# Altium schematic symbol library stratos.SchLib: 36 symbols (part 2 of 2)
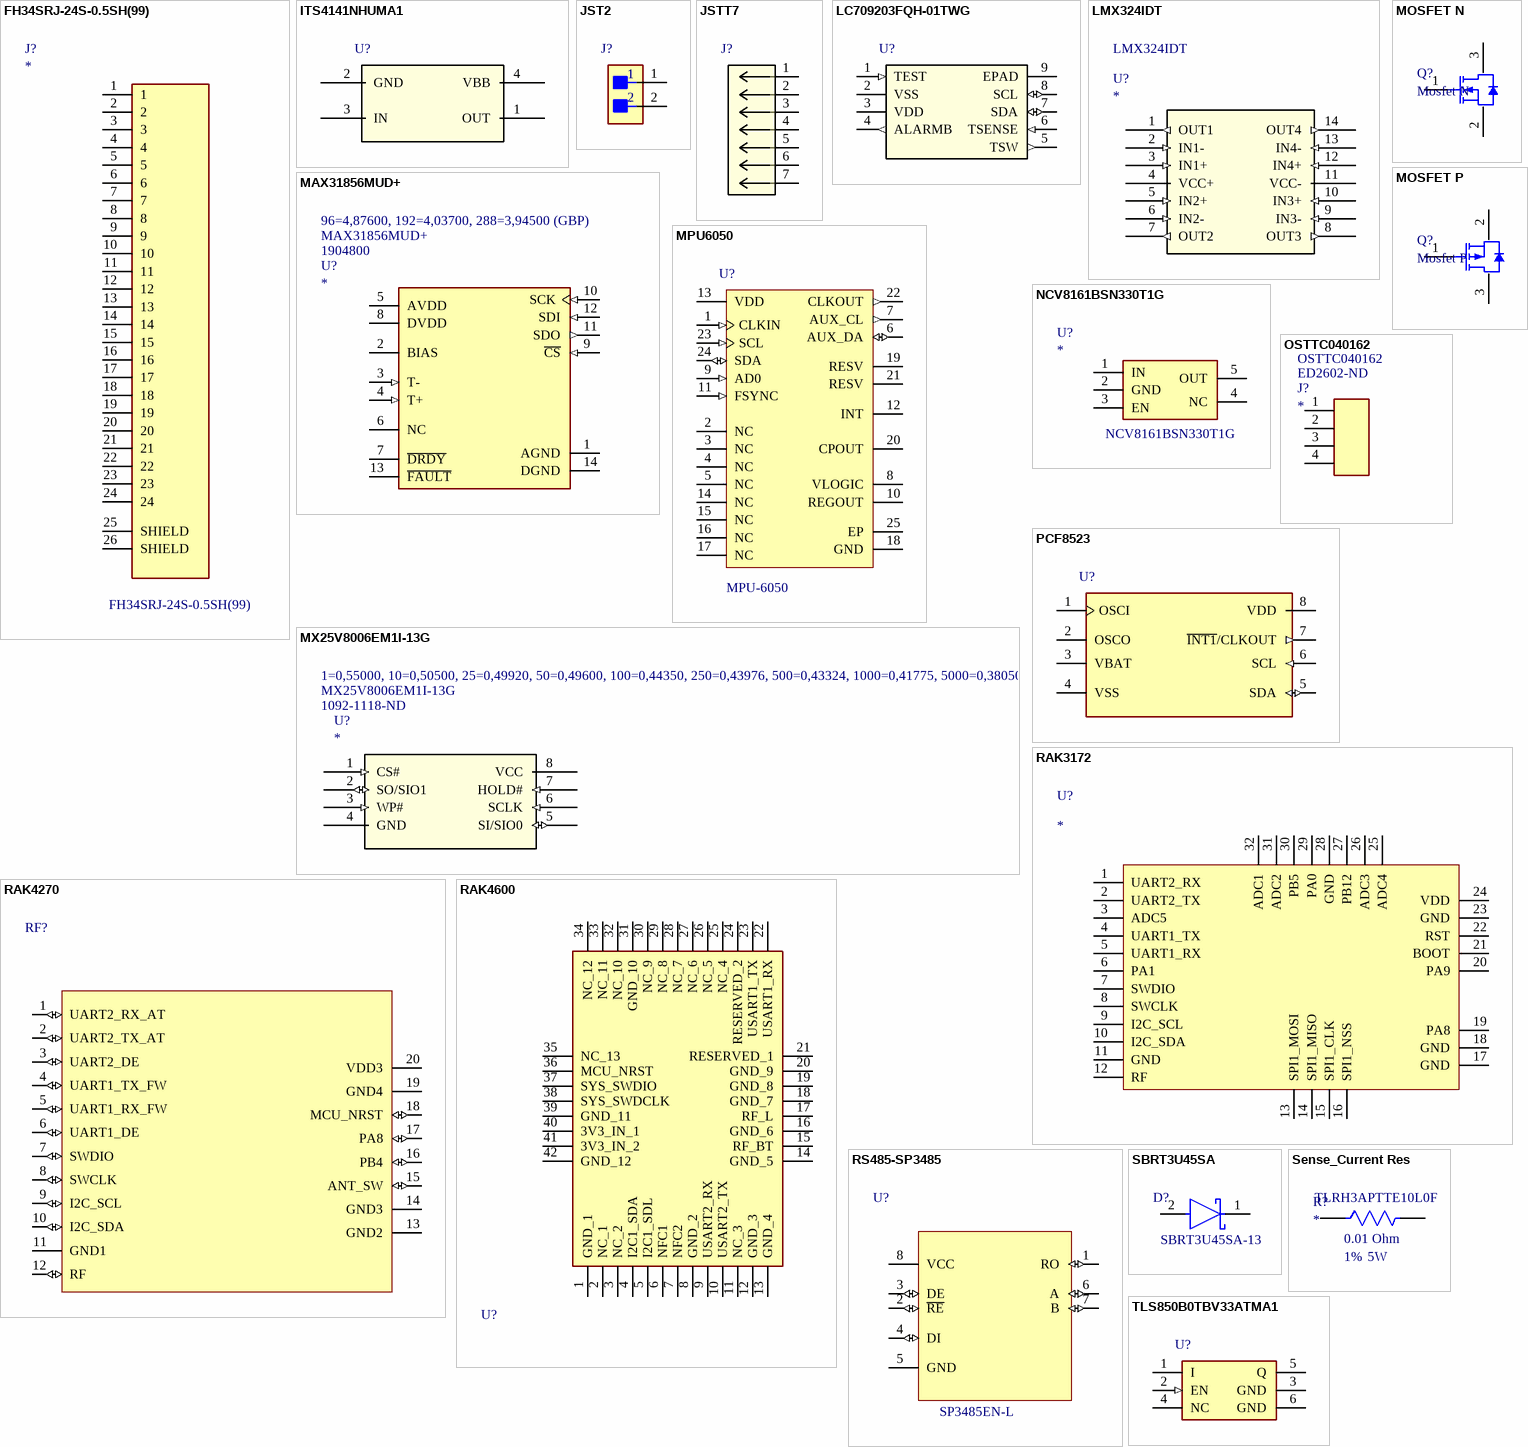
[diagram p2: symbols FH34SRJ-24S-0.5SH(99) to TLS850B0TBV33ATMA1]

## MX25V8006EM1I-13G
designator U?  Supplier Part Number 1: 1092-1118-ND  Manufacturer Part Number: MX25V8006EM1I-13G  Pricing 1: 1=0,55000, 10=0,50500, 25=0,49920, 50=0,49600, 100=0,44350, 250=0,43976, 500=0,43324, 1000=0,41775, 5000=0,38050 (USD)
MX25U Series 3.6 V 8 Mb (8 M x 1 / 4 M x 2) Surface Mount Serial Flash -SOP - 8; Manufacturer: Macronix; Operating Supply Voltage: 3.6V; Interface: SPI,Serial; Memory Type: FLASH,NOR; Frequency: 75MHz; Density: 8Mb; Supplier 1: Digi-Key; RoHS: Yes; Category: Flash; Stock 1: 38531; Mount: Surface Mount; Case/Package: SOIC; Min Operating Temperature: -40°C; Max Operating Temperature: 85°C; Package Quantity: 98; Packaging: Rail/Tube; Max Frequency: 75MHz; Series: MX25xxx05/06; Supply Voltage-Nom: 3.6V; Lead Free: Lead Free; Temperature Grade: INDUSTRIAL; RoHS Compliant: Yes; ComponentLink1URL: https://datasheet.ciiva.com/16348/mx25v8006em1i-13g-16348067.pdf?src-supplier=Future+Electronics; ComponentLink1Description: https://datasheet.ciiva.com/16348/mx25v8006em1i-13g-16348067.pdf?src-supplier=Future+Electronics; ComponentLink2URL: https://datasheet.ciiva.com/1905/mx25v8006e-1905271.pdf?src-supplier=Digi-Key; ComponentLink2Description: https://datasheet.ciiva.com/1905/mx25v8006e-1905271.pdf?src-supplier=Digi-Key; Link: https://www.digikey.com/es/products/detail/macronix/MX25V8006EM1I-13G/2744801
footprint MX25V8006EM1I-13G (FLASH - NOR Memoria IC 8Mb (1M x 8) SPI 75 MHz 8-SOP)
pins: 1 CS# (in), 2 SO/SIO1 (io), 3 WP# (in), 4 GND, 5 SI/SIO0 (io), 6 SCLK (in), 7 HOLD# (in), 8 VCC (power)

## NCV8161BSN330T1G
designator U?  Manufacturer Part Number: NCV8161BSN330T1G
ON SEMICONDUCTOR - NCV8161BSN330T1G - LDO-FESTSP.REG AEC-Q100 3.3V 0.45A TSOP5; Output Type: Fixed; Output Configuration: Positive; Number of Regulators: 1; Max Input Voltage: 5.5V; Dropout Voltage: 305mV; Output Current: 450mA; Quiescent Current: 23uA; Power Supply Rejection Ratio (PSRR): 48dB; Supplier 1: RSComponents; Manufacturer: ON Semiconductor; RoHS: Yes; Category: Voltage Regulators - Linear; Stock 1: 3700; Mount: Surface Mount; Case/Package: SOT-23-5; Min Operating Temperature: -40°C; Max Operating Temperature: 125°C; Packaging: Cut Tape; Min Output Voltage: 3.3V; RoHS Compliant: Yes; ComponentLink1URL: http://www.farnell.com/datasheets/2290244.pdf?src-supplier=Farnell; ComponentLink1Description: http://www.farnell.com/datasheets/2290244.pdf?src-supplier=Farnell; ComponentLink2URL: http://www.onsemi.com/pub/Collateral/NCV8161-D.PDF?src-supplier=Digi-Key; ComponentLink2Description: http://www.onsemi.com/pub/Collateral/NCV8161-D.PDF?src-supplier=Digi-Key; ComponentLink3URL: http://www.farnell.com/datasheets/2290244.pdf?src-supplier=Newark; ComponentLink3Description: http://www.farnell.com/datasheets/2290244.pdf?src-supplier=Newark; Supplier Part Number 1: 1718403P; Pricing 1: 100=0,33700, 500=0,31900, 1000=0,24400, 3000=0,21900 (GBP); Link: https://www.digikey.com/en/products/detail/NCV8161BSN330T1G/NCV8161BSN330T1GOSCT-ND/7556483?itemSeq=375639462
footprint NCV8161BSN330T1G (IC REG LINEAR 3.3V 450MA 5TSOP)
pins: 1 IN (power) "Input", 2 GND "Enable", 3 EN (power) "Ground", 4 NC "Not connected", 5 OUT (power) "Output"

## OSTTC040162
designator J?  Supplier Part Number 1: ED2602-ND  Manufacturer Part Number: OSTTC040162  Pricing 1: 1=1,29000, 10=0,80600, 25=0,68960, 50=0,62000, 100=0,60700, 250=0,51660, 500=0,49076, 1000=0,43911, 5000=0,34440 (USD)
Conn Terminal Block 4 POS 5mm Solder ST Thru-Hole 15A; Manufacturer: On-Shore Technology; Plating: Steel; Number of Levels: 1; Number of Positions Per Level: 4; Voltage: 300V; Wire Gauge (Max): 22AWG; Wire Gauge (Min): 14AWG; Pitch: 0.197inch; Supplier 1: Digi-Key; RoHS: Yes; Category: Terminal Blocks; Stock 1: 6766; Mount: Through Hole; Number of Pins: 4; Color: Blue; Contact Plating: Tin; Housing Color: Blue; Contact Material: Brass; Housing Material: Thermoplastic; Min Operating Temperature: -30°C; Max Operating Temperature: 105°C; Packaging: Bulk; Current: 15A; Termination: Screw; Number of Positions: 4; Number of Rows: 1; Series: OSTTC; Length: 20mm; Width: 7.6mm; Height: 10mm; Flammability Rating: UL94 V-0; RoHS Compliant: Yes; ComponentLink1URL: https://datasheet.ciiva.com/825/osttcxx0162-825113.pdf?src-supplier=Digi-Key; ComponentLink1Description: https://datasheet.ciiva.com/825/osttcxx0162-825113.pdf?src-supplier=Digi-Key; Link: https://www.digikey.com/en/products/detail/on-shore-technology-inc/OSTTC040162/614551
footprint OSTTC040162 (TERM BLK 4POS SIDE ENTRY 5MM PCB)
pins: 1, 2, 3, 4

## PCF8523
designator U?
IC RTC CLK/CALENDAR I2C 8-SOIC; Manufacturer: NXP Semiconductors; Manufacturer Part Number: PCF8523T/1,118; Time Format: HH:MM:SS; Logic Function: Clock; Min Supply Voltage: 1.2V; Max Supply Voltage: 5.5V; Supplier 1: Avnet; RoHS: Yes; Category: Interface ICs; Mount: Surface Mount; Case/Package: SO; Number of Pins: 8; Contact Plating: Gold; Min Operating Temperature: -40°C; Max Operating Temperature: 85°C; Packaging: Tape and Reel; Interface: I2C; Package Quantity: 2500; Supply Voltage-Nom: 5.5V; Radiation Hardening: No; RoHS Compliant: Yes; REACH SVHC: No SVHC; Lead Free: Lead Free; Temperature Grade: INDUSTRIAL; ComponentLink1URL: https://datasheet.ciiva.com/1238/pcf8523-1238780.pdf?src-supplier=Digi-Key; ComponentLink1Description: https://datasheet.ciiva.com/1238/pcf8523-1238780.pdf?src-supplier=Digi-Key; ComponentLink2URL: https://datasheet.ciiva.com/1238/pcf8523-1238781.pdf?src-supplier=Digi-Key; ComponentLink2Description: https://datasheet.ciiva.com/1238/pcf8523-1238781.pdf?src-supplier=Digi-Key; ComponentLink3URL: https://datasheet.ciiva.com/1238/pcf8523-1238782.pdf?src-supplier=Digi-Key; ComponentLink3Description: https://datasheet.ciiva.com/1238/pcf8523-1238782.pdf?src-supplier=Digi-Key; ComponentLink4URL: https://datasheet.ciiva.com/15152/getdatasheetpartid-445247-15152839.pdf?src-supplier=Verical; ComponentLink4Description: https://datasheet.ciiva.com/15152/getdatasheetpartid-445247-15152839.pdf?src-supplier=Verical; ComponentLink5URL: https://datasheet.ciiva.com/16286/pcf8523-16286477.pdf?src-supplier=Future+Electronics; ComponentLink5Description: https://datasheet.ciiva.com/16286/pcf8523-16286477.pdf?src-supplier=Future+Electronics; Supplier Part Number 1: 52X6196; Pricing 1: 1=1,58000, 10=1,41000, 25=1,34000, 50=1,22000, 100=1,10000, 250=1,03000 (USD); Link: https://www.digikey.com/es/products/detail/nxp-usa-inc/PCF8523T-1-118/2530422
footprint PCF8523
pins: 1 OSCI, 2 OSCO, 3 VBAT (power), 4 VSS (power), 5 SDA (io), 6 SCL (in), 7 ~{INT1}/CLKOUT (out), 8 VDD (power)

## RAK3172
designator U?
RAK3172 WisDuo LPWAN Module; Manufacturer: RAK; Manufacturer Part Number: RAK3172; Link: https://store.rakwireless.com/products/wisduo-lpwan-module-rak3172?variant=40014759395526
footprint RAK3172 (RAK3172 WisDuo LPWAN Module)
pins: 1 UART2_RX, 2 UART2_TX, 3 ADC5, 4 UART1_TX, 5 UART1_RX, 6 PA1, 7 SWDIO, 8 SWCLK, 9 I2C_SCL, 10 I2C_SDA, 11 GND, 12 RF, 13 SPI1_MOSI, 14 SPI1_MISO, 15 SPI1_CLK, 16 SPI1_NSS, 17 GND, 18 GND, 19 PA8, 20 PA9, 21 BOOT, 22 RST, 23 GND, 24 VDD, 25 ADC4, 26 ADC3, 27 PB12, 28 GND, 29 PA0, 30 PB5, 31 ADC2, 32 ADC1

## RAK4270
designator RF?
RAK4270 LoRaWAN Module; Manufacturer: RakWireless; Manufacturer Part Number: RAK4270; Link: https://www.rakwireless.com/en-us/products/lpwan-modules/rak4270-lpwan-module; ComponentLink1Description: Documentation; ComponentLink1URL: https://docs.rakwireless.com/Product-Categories/WisDuo/RAK4270-Module/Overview/
footprint RAK4270
pins: 1 UART2_RX_AT (io), 2 UART2_TX_AT (io), 3 UART2_DE (io), 4 UART1_TX_FW (io), 5 UART1_RX_FW (io), 6 UART1_DE (io), 7 SWDIO (io), 8 SWCLK (io), 9 I2C_SCL (io), 10 I2C_SDA (io), 11 GND1 (power), 12 RF (io), 13 GND2 (power), 14 GND3 (power), 15 ANT_SW (io), 16 PB4 (io), 17 PA8 (io), 18 MCU_NRST (io), 19 GND4 (power), 20 VDD3 (power)

## RAK4600
designator U?
RAK4600 AU915 WisDuo LPWAN Module. LoRaWAN and BLE.; Manufacturer: RakWireless; Manufacturer Part Number: RAK4600; Link: https://store.rakwireless.com/products/rak4600-lora-module?variant=31767259906093; ComponentLink1Description: Documentation; ComponentLink1URL: https://docs.rakwireless.com/Product-Categories/WisDuo/RAK4600-Module/Overview/
footprint RAK4600
pins: 1 GND_1, 2 NC_1, 3 NC_2, 4 I2C1_SDA, 5 I2C1_SDL, 6 NFC1, 7 NFC2, 8 GND_2, 9 USART2_RX, 10 USART2_TX, 11 NC_3, 12 GND_3, 13 GND_4, 14 GND_5, 15 RF_BT, 16 GND_6, 17 RF_L, 18 GND_7, 19 GND_8, 20 GND_9, 21 RESERVED_1, 22 USART1_RX, 23 USART1_TX, 24 RESERVED_2, 25 NC_4, 26 NC_5, 27 NC_6, 28 NC_7, 29 NC_8, 30 NC_9, 31 GND_10, 32 NC_10, 33 NC_11, 34 NC_12, 35 NC_13, 36 MCU_NRST, 37 SYS_SWDIO, 38 SYS_SWDCLK, 39 GND_11, 40 3V3_IN_1, 41 3V3_IN_2, 42 GND_12

## RS485-SP3485
designator U?  Manufacturer Part Number: SP3485EN-L
Single Transmitter/Receiver RS-422/RS-485 8-Pin SOIC N; Manufacturer: Exar; Data Rate: 10Mbps; Simplex/Duplex: Half Duplex; Number of Receivers: 1; Operating Supply Voltage: 3.3V; Min Supply Voltage: 3.135V; Max Supply Voltage: 3.465V; Nominal Supply Current: 2mA; Logic Function: Transceiver; Max Power Dissipation: 600mW; Output Current: 1uA; Supplier 1: Allied Electronics; RoHS: Yes; Category: Interface ICs; Mount: Surface Mount; Case/Package: SOIC N; Number of Pins: 8; Min Operating Temperature: -40°C; Max Operating Temperature: 85°C; Packaging: Rail/Tube; Package Quantity: 98; Number of Transmitters: 1; Number of Drivers: 1; Number of Transceivers: 1; Supply Current: 2mA; Number of Transmit Buffers: 1; Number of Receive Buffers: 1; Series: SP3485; Length: 4.9mm; Width: 3.9mm; Height: 1.65mm; Radiation Hardening: No; RoHS Compliant: Yes; Lead Free: Lead Free; REACH SVHC: Unknown; ComponentLink1URL: https://datasheet.ciiva.com/23593/1563967-23593299.pdf?src-supplier=Newark; ComponentLink1Description: https://datasheet.ciiva.com/23593/1563967-23593299.pdf?src-supplier=Newark; ComponentLink2URL: https://datasheet.ciiva.com/22828/0900766b81141d5c-22828332.pdf?src-supplier=RSComponents; ComponentLink2Description: https://datasheet.ciiva.com/22828/0900766b81141d5c-22828332.pdf?src-supplier=RSComponents; ComponentLink3URL: https://datasheet.ciiva.com/26829/sp3485en-l-26829691.pdf?src-supplier=IIIC; ComponentLink3Description: https://datasheet.ciiva.com/26829/sp3485en-l-26829691.pdf?src-supplier=IIIC; ComponentLink4URL: https://datasheet.ciiva.com/1495/1563967-1495198.pdf?src-supplier=Element14; ComponentLink4Description: https://datasheet.ciiva.com/1495/1563967-1495198.pdf?src-supplier=Element14; Supplier Part Number 1: 70400827; Link: https://www.digikey.com/es/products/detail/maxlinear-inc/SP3485EN-L/2411077
footprint SP3485 (IC TRANSCEIVER HALF 1/1 8SOIC)
footprint SP3485-L (IC TRANSCEIVER HALF 1/1 8SOIC)
footprint SP3485-M (IC TRANSCEIVER HALF 1/1 8SOIC)
pins: 1 RO (io), 2 ~{RE} (io), 3 DE (io), 4 DI (io), 5 GND, 6 A (io), 7 B (io), 8 VCC (power)

## SBRT3U45SA
designator D?  Manufacturer Part Number: SBRT3U45SA-13
DIODE SBR 45V 3A SMA; Manufacturer: Diodes; Element Configuration: Single; Forward Voltage: 420mV; Max Forward Surge Current (Ifsm): 50A; Max Reverse Current: 40mA; Supplier 1: Digi-Key; RoHS: Yes; Category: Rectifier Diodes; Stock 1: 387; Mount: Surface Mount; Case/Package: SMA; Weight: 0.002258oz; Min Operating Temperature: -55°C; Max Operating Temperature: 150°C; Packaging: Tape and Reel; Average Rectified Current: 3A; Max Repetitive Reverse Voltage (Vrrm): 45V; Package Quantity: 5000; Max Reverse Voltage (DC): 45V; Lead Free: Lead Free; RoHS Compliant: Yes; ComponentLink1URL: http://www.mouser.com/ds/2/115/SBRT3U45SA-527766.pdf?src-supplier=Mouser; ComponentLink1Description: http://www.mouser.com/ds/2/115/SBRT3U45SA-527766.pdf?src-supplier=Mouser; ComponentLink2URL: http://diodes.com/datasheets/sbr/SBRT3U45SA.pdf?src-supplier=Avnet; ComponentLink2Description: http://diodes.com/datasheets/sbr/SBRT3U45SA.pdf?src-supplier=Avnet; ComponentLink3URL: https://www.diodes.com/assets/Datasheets/SBRT3U45SA.pdf?src-supplier=Digi-Key; ComponentLink3Description: https://www.diodes.com/assets/Datasheets/SBRT3U45SA.pdf?src-supplier=Digi-Key; Supplier Part Number 1: SBRT3U45SA-13DICT-ND; Pricing 1: 1=0,41000, 10=0,33600, 100=0,22880, 500=0,17160, 1000=0,12870, 2000=0,11798 (USD); Link: https://www.digikey.com/es/products/detail/diodes-incorporated/SBRT3U45SA-13/4869049?s=N4IgTCBcDaIMoCEBKAVAzAVQCwFY4EEBaARjRAF0BfIA
footprint SBRT3U45SA-13 (DIODE SBR 45V 3A SMA)
pins: 1 C, 2 A

## Sense_Current Res
designator R?  value 0.01 Ohm  Manufacturer Part Number: TLRH3APTTE10L0F  Power: 5W  Tolerance: 1%
Res Metal Plate 2512 0.01 Ohm 1% 5W ±75ppm/C Pad SMD Automotive T/R; Manufacturer: KOA Speer; Supplier 1: Digi-Key; RoHS: Yes; Category: Chip SMD Resistors; Stock 1: 3744; RoHS Compliant: Yes; ComponentLink1URL: http://www.mouser.com/ds/2/219/TLR-2BW-2BP-2HW-3AP-3APS-1100841.pdf?src-supplier=Mouser; ComponentLink1Description: http://www.mouser.com/ds/2/219/TLR-2BW-2BP-2HW-3AP-3APS-1100841.pdf?src-supplier=Mouser; Pricing 1: 1=1,58000, 10=1,39500, 25=1,28240, 50=1,17000, 100=1,01250, 250=0,85500, 500=0,72000, 1000=0,59850 (USD); Supplier Part Number 1: 2019-TLRH3APTTE10L0FCT-ND; Link: https://www.digikey.com/en/products/detail/koa-speer-electronics-inc/TLRH3APTTE10L0F/9845480
footprint Sense_Current Res
pins: 1, 2

## TLS850B0TBV33ATMA1
designator U?
LDO Regulator Pos 3.3V 0.5A Automotive 6-Pin(5+Tab) TO-263 T/R; Manufacturer: Infineon; Manufacturer Part Number: TLS850B0TBV33ATMA1; Accuracy: 2%; Dropout Voltage: 100mV; Max Supply Voltage: 40V; Output Current: 500mA; Quiescent Current: 20A; Watchdog Timer: No; Output Type: Fixed; Output Configuration: Positive; Number of Regulators: 1; Max Supply Current: 33uA; Power Supply Rejection Ratio (PSRR): 63dB; Supplier 1: Digi-Key; RoHS: Yes; Category: Power Management ICs; Stock 1: 1242; Mount: Surface Mount; Case/Package: TO-263-6; Min Operating Temperature: -40°C; Max Operating Temperature: 150°C; Nominal Output Voltage: 3.3V; Packaging: Cut Tape; Max Input Voltage: 40V; Min Output Voltage: 3.3V; Lead Free: Contains Lead; Halogen Free: Halogen Free; ComponentLink1URL: https://www.infineon.com/dgdl/Infineon-TLS850B0TB V33-DS-v01_00-EN.pdf?fileId=5546d4625fe3678401600cf0f9cb6d40&src-supplier=Digi-Key; ComponentLink1Description: https://www.infineon.com/dgdl/Infineon-TLS850B0TB V33-DS-v01_00-EN.pdf?fileId=5546d4625fe3678401600cf0f9cb6d40&src-supplier=Digi-Key; Supplier Part Number 1: TLS850B0TBV33ATMA1CT-ND; Pricing 1: 1=1,80000, 10=1,61300, 25=1,52160, 100=1,29630, 250=1,21716, 500=1,06502 (USD); Link: https://www.digikey.com/es/products/detail/infineon-technologies/TLS850B0TBV33ATMA1/8627140
footprint TLS850B0TBV33ATMA1 (IC REG LIN 3.3V 500MA TO263-5-1)
pins: 1 I (power) "Input", 2 EN (in) "Enable", 3 GND (power) "Ground", 4 NC "Not connected", 5 Q (power) "Output", 6 GND (power) "Heat Slug"